# Altium schematic symbol library IR2184.SCHLIB: 34 symbols
Pins are listed as number, name and electrical type; pins without a type are passive.

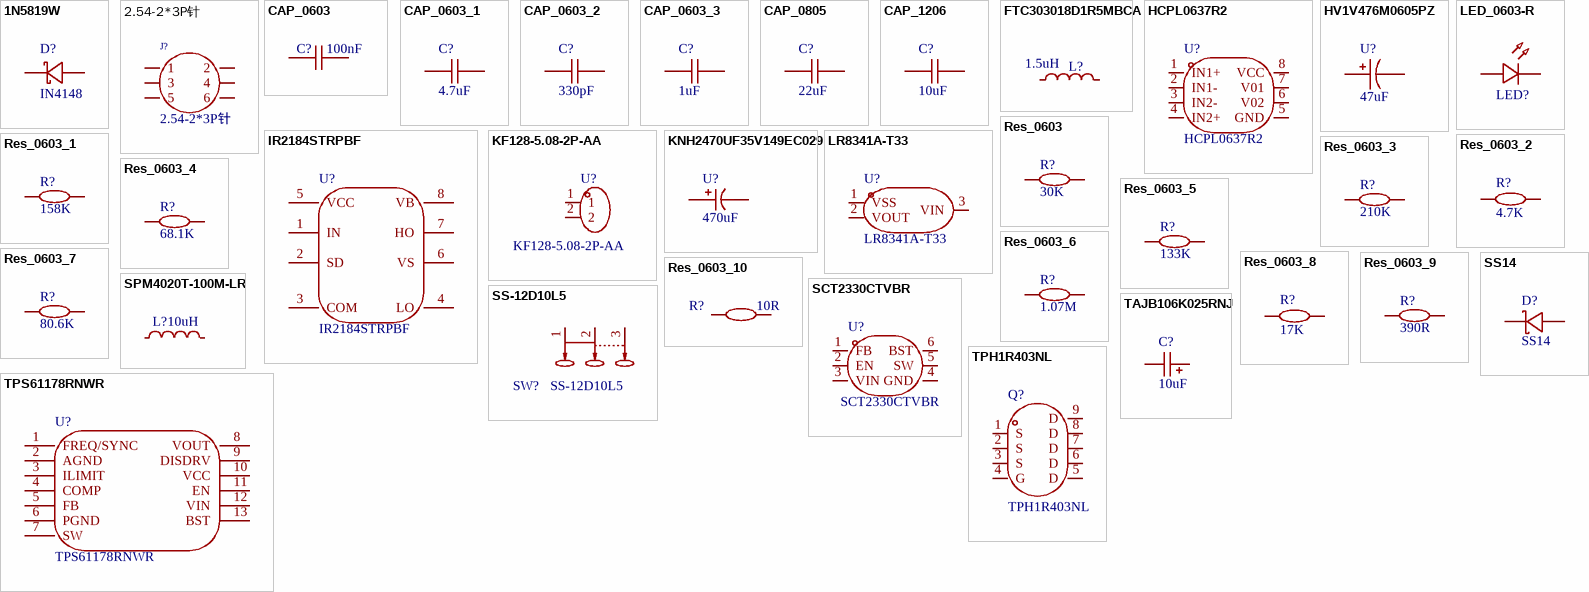
[diagram p0: symbols 1N5819W to TPS61178RNWR]

## 1N5819W
designator D?, comment IN4148
Manufacturer: TECH PUBLIC(台舟); Symbol: 1N5819W_C2905650; Device: 1N5819W; Add into BOM: yes; Forward Voltage (Vf@If): 900mV@3A; Reverse Voltage (Vr): 40V; Average Rectified Current (Io): 1A; Reverse Leakage Current (Ir): 1mA@40V; LCSC Part Name: 电压:40V 电流:1A; Supplier Part: C2905650; Manufacturer Part: 1N5819W; Supplier Footprint: SOD-123; JLCPCB Part Class: 扩展库; Datasheet: https://atta.szlcsc.com/upload/public/pdf/source/20211020/7FEA34DA99E5285CBA3CC87767B82BE7.pdf; Supplier: LCSC; Convert to PCB: yes; Diode Configuration: -
footprint SOD-123
3D model SOD-123_L2.7-W1.6-LS3.7-RD-1
pins: 1 K, 2 A

## 2.54-2*3P针
designator J?
Manufacturer: BOOMELE(博穆精密); Symbol: Header-Male-2.54_2x3; Add into BOM: yes; Pitch: 2.54mm; Device: 2.54-2*3P针; Supplier: LCSC; Manufacturer Part: 2.54-2*3P针; Supplier Part: C65114; LCSC Part Name: 间距:2.54mm 直插; Supplier Footprint: 插件,P=2.54mm; Convert to PCB: yes; Pin Structure: -; Row Spacing: -; Circluar Pins/Square Pins: -; Mounting Type: 直插; Number of Rows: 双排; Number of Pins: 6P; Current Rating (Max): -; Voltage Rating (Max): -; Length of Mating Pin: -; Insulation Height: -; Contact Material: -; Contact Plating: -; Color: 黑色
footprint HDR-TH_6P-P2.54-V-M-R2-C3-S2.54-1
3D model HDR2.54-M-LI-2x3P
pins: 1, 2, 3, 4, 5, 6

## CAP_0603
designator C?, comment 100nF
Symbol: CapAcitance; Device: CAP_0603; Convert to PCB: yes; Add into BOM: yes; Supplier Footprint: 0603; Value: 100nF
footprint C0603
3D model C0603_L1.6-W0.8-H0.8
pins: 1, 2

## CAP_0603_1
designator C?, comment 4.7uF
Symbol: CapAcitance; Device: CAP_0603; Convert to PCB: yes; Add into BOM: yes; Supplier Footprint: 0603; Value: 4.7uF
footprint C0603
3D model C0603_L1.6-W0.8-H0.8
pins: 1, 2

## CAP_0603_2
designator C?, comment 330pF
Symbol: CapAcitance; Device: CAP_0603; Convert to PCB: yes; Add into BOM: yes; Supplier Footprint: 0603; Value: 330pF
footprint C0603
3D model C0603_L1.6-W0.8-H0.8
pins: 1, 2

## CAP_0603_3
designator C?, comment 1uF
Symbol: CapAcitance; Device: CAP_0603; Convert to PCB: yes; Add into BOM: yes; Supplier Footprint: 0603; Value: 1uF
footprint C0603
3D model C0603_L1.6-W0.8-H0.8
pins: 1, 2

## CAP_0805
designator C?, comment 22uF
Symbol: CapAcitance; Device: CAP_0805; Convert to PCB: yes; Add into BOM: yes; Supplier Footprint: 0805; Value: 22uF
footprint C0805
3D model C0805_L2.0-W1.3-H1.3
pins: 1, 2

## CAP_1206
designator C?, comment 10uF
Symbol: CapAcitance; Device: CAP_1206; Convert to PCB: yes; Add into BOM: yes; Supplier Footprint: 1206; Value: 10uF
footprint C1206
3D model C1206_L3.2-W1.6-H1.3
pins: 1, 2

## FTC303018D1R5MBCA
designator L?, comment 1.5uH
Manufacturer: cjiang(长江微电); Symbol: FTC303018D1R5MBCA; Add into BOM: yes; Tolerance: ±20%; Rated Current: 6.8A; Saturation Current (Isat): 8A; DC Resistance (DCR): 26mΩ; Type: 一体成型电感; Device: FTC303018D1R5MBCA; LCSC Part Name: 1.5uH ±20% 8A; Supplier Part: C18724425; Manufacturer Part: FTC303018D1R5MBCA; Supplier Footprint: SMD,3x3mm; JLCPCB Part Class: 扩展库; Datasheet: https://atta.szlcsc.com/upload/public/pdf/source/20231019/B5E0F432965A5C2228E278E158E2A8B1.pdf; Supplier: LCSC; Convert to PCB: yes; Value: 1.5uH
footprint IND-SMD_L3.0-W3.0
3D model IND-SMD_L3.0-W3.0-H1.5
pins: 1, 2

## HCPL0637R2
designator U?
Manufacturer: onsemi(安森美); Add into BOM: yes; Input Type: DC; Supply Voltage: 4.5V~5.5V; Isolation Voltage(rms): 3.75kV; Common Mode Transient Immunity (CMTI): 5kV/us; Data Rate: 10Mbit/s; Propagation Delay tpLH/tpHL: 75ns；75ns; Number of Channels: 2; Symbol: HCPL0637R2; Device: HCPL0637R2; Supplier: LCSC; Supplier Part: C903763; Manufacturer Part: HCPL0637R2; JLCPCB Part Class: 扩展库; LCSC Part Name: DC输入 2通道 隔离电压(rms):3750V; Supplier Footprint: SOIC-8; Datasheet: https://atta.szlcsc.com/upload/public/pdf/source/20210715/C903763_7EAE85807EAC1A9EEA8059367D2C86FD.pdf; Convert to PCB: yes; Operating Temperature: -40℃~+85℃
footprint HCPL-0630
3D model SMD-8_L4.9-W3.9-P1.27-LS6.0-BL
pins: 1 IN1+, 2 IN1-, 3 IN2-, 4 IN2+, 5 GND, 6 V02, 7 V01, 8 VCC

## HV1V476M0605PZ
designator U?, comment 47uF
Manufacturer: HONOR(荣誉); Symbol: HV1V476M0605PZ; Add into BOM: yes; Tolerance: ±20%; Rated Voltage: 35V; φD: 6.3mm; L: 5mm; Device: HV1V476M0605PZ; Supplier: LCSC; Supplier Part: C5246552; Manufacturer Part: HV1V476M0605PZ; Value: 47uF; LCSC Part Name: 47uF ±20% 35V; Supplier Footprint: SMD,D6.3xL5.8mm; Datasheet: https://atta.szlcsc.com/upload/public/pdf/source/20221103/F889AFCC379E96C645A0A58E4BAC43B0.pdf; Convert to PCB: yes; Operating Temperature: -55℃~+105℃
footprint CAP-SMD-L6.6-W6.6
3D model CAP-SMD_BD6.3-L6.6-W6.6-LS7.2-FD
pins: 1, 2

## IR2184STRPBF
designator U?
Manufacturer: Infineon(英飞凌); Add into BOM: yes; Driven Configuration: 半桥; Load Type: MOSFET；IGBT; Number of Drivers: 2; Peak Output Current(sink): 2.3A; Peak Output Current(source): 1.9A; Supply Voltage: 10V~20V; Rise Time: 40ns; Fall Time: 20ns; Symbol: IR2184STRPBF; Device: IR2184STRPBF; Supplier: LCSC; Manufacturer Part: IR2184STRPBF; Supplier Part: C2995; JLCPCB Part Class: 扩展库; LCSC Part Name: IR2184STRPBF; Supplier Footprint: SOIC-8; Datasheet: https://atta.szlcsc.com/upload/public/pdf/source/20180428/C212202_166266BE420162375EE24979A7C0A97C.pdf; Convert to PCB: yes; Operating Temperature: -40℃~+150℃@(Tj)
footprint SOIC-8
3D model SOIC-8_L4.9-W3.9-H1.7-LS6.0-P1.27
pins: 1 IN, 2 SD, 3 COM, 4 LO, 5 VCC, 6 VS, 7 HO, 8 VB

## KF128-5.08-2P-AA
designator U?
Manufacturer: KEFA(科发); Add into BOM: yes; Structure: 1x2P; Pitch: 5.08mm; Current Rating (Max): 24A; Voltage Rating (Max): 250V; Wire Gauge - AWG: 12~22; Wire Gauge - mm2: 2.5; Number of PINs Per Row: 2; Symbol: KF128-5.08-2P; Device: KF128-5.08-2P-AA; Supplier: LCSC; Supplier Part: C474952; Manufacturer Part: KF128-5.08-2P-AA; LCSC Part Name: 5.08mm 1x2P 排数:1 每排P数:2 直插; Supplier Footprint: 插件,P=5.08mm; Datasheet: https://atta.szlcsc.com/upload/public/pdf/source/20230317/DADFED05827EAD48C1D5B8C3D4CF88F4.pdf; Convert to PCB: yes; Color: 绿色; Mounting Style: 直插; Number of Pins: 2P; Number of Rows: 1; Operating Temperature Range: -40℃~+105℃
footprint CONN-TH_P5.08_KF128-5.08-2P
3D model CONN-TH_P5.08_KF128-5.08-2P
pins: 1, 2

## KNH2470UF35V149EC029
designator U?, comment 470uF
Manufacturer: KNSCHA(科尼盛); Symbol: KNH2470UF35V149EC029; Add into BOM: yes; Rated Voltage: 35V; Device: KNH2470UF35V149EC029; LCSC Part Name: 470uF 35V; Supplier Part: C5155349; Manufacturer Part: KNH2470UF35V149EC029; Supplier Footprint: 插件,D8xL14mm; Datasheet: https://atta.szlcsc.com/upload/public/pdf/source/20220901/A0D6BA87A5215908601C61D24FEF08D2.pdf; Supplier: LCSC; Convert to PCB: yes; Value: 470uF
footprint CAP-TH_BD8.0-P3.50-D0.6-FD
3D model CAP-TH_D8.0-H8.0-P3.50
footprint CAP-SMD-L10-W10 (直径10mm，高13mm                 联系卖家 免费查找封装)
pins: 1, 2

## LED_0603-R
designator LED?
Symbol: LED_R; Device: LED_0603-R; Convert to PCB: yes; Add into BOM: yes; Supplier Footprint: 0603
footprint LED_0603
3D model LED-0603_R
pins: 1 C, 2 A

## LR8341A-T33
designator U?
Manufacturer: LR(朗瑞); Add into BOM: yes; Output Type: 固定; Maximum Input Voltage: 40V; Output Voltage: 3.3V; MAX Output Current: 100mA; Power Supply Rejection Ratio (PSRR): 55dB@(1kHz); standby current: 2uA; Output Polarity: 正极; Number of Outputs: 1; Symbol: LR8341A-T33; Device: LR8341A-T33; LCSC Part Name: 输入40V 输出3.3V 100mA; Supplier Part: C2829465; Manufacturer Part: LR8341A-T33; Supplier Footprint: SOT-23-3L; Datasheet: https://atta.szlcsc.com/upload/public/pdf/source/20210426/C2829465_61F15D7ACE9671B48D4F69A8092B0D8F.pdf; Supplier: LCSC; Convert to PCB: yes; Dropout Voltage: -; Noise: -; Feature: -; Operating Temperature: -40℃~+85℃
footprint SOT-23-3
3D model SOT-23-3L_L2.9-W1.6-P1.90-LS2.8-BL
pins: 1 VSS, 2 VOUT, 3 VIN

## Res_0603
designator R?, comment 30K
Symbol: 电阻; Device: Res_0603; Convert to PCB: yes; Add into BOM: yes; Supplier Footprint: 0603; Value: 30K
footprint R0603
3D model R0603
pins: 1, 2

## Res_0603_1
designator R?, comment 158K
Symbol: 电阻; Device: Res_0603; Convert to PCB: yes; Add into BOM: yes; Supplier Footprint: 0603; Value: 158K
footprint R0603
3D model R0603
pins: 1, 2

## Res_0603_2
designator R?, comment 4.7K
Symbol: 电阻; Device: Res_0603; Convert to PCB: yes; Add into BOM: yes; Supplier Footprint: 0603; Value: 4.7K
footprint R0603
3D model R0603
pins: 1, 2

## Res_0603_3
designator R?, comment 210K
Symbol: 电阻; Device: Res_0603; Convert to PCB: yes; Add into BOM: yes; Supplier Footprint: 0603; Value: 210K
footprint R0603
3D model R0603
pins: 1, 2

## Res_0603_4
designator R?, comment 68.1K
Symbol: 电阻; Device: Res_0603; Convert to PCB: yes; Add into BOM: yes; Supplier Footprint: 0603; Value: 68.1K
footprint R0603
3D model R0603
pins: 1, 2

## Res_0603_5
designator R?, comment 133K
Symbol: 电阻; Device: Res_0603; Convert to PCB: yes; Add into BOM: yes; Supplier Footprint: 0603; Value: 133K
footprint R0603
3D model R0603
pins: 1, 2

## Res_0603_6
designator R?, comment 1.07M
Symbol: 电阻; Device: Res_0603; Convert to PCB: yes; Add into BOM: yes; Supplier Footprint: 0603; Value: 1.07M
footprint R0603
3D model R0603
pins: 1, 2

## Res_0603_7
designator R?, comment 80.6K
Symbol: 电阻; Device: Res_0603; Convert to PCB: yes; Add into BOM: yes; Supplier Footprint: 0603; Value: 80.6K
footprint R0603
3D model R0603
pins: 1, 2

## Res_0603_8
designator R?, comment 17K
Symbol: 电阻; Device: Res_0603; Convert to PCB: yes; Add into BOM: yes; Supplier Footprint: 0603; Value: 17K
footprint R0603
3D model R0603
pins: 1, 2

## Res_0603_9
designator R?, comment 390R
Symbol: 电阻; Device: Res_0603; Convert to PCB: yes; Add into BOM: yes; Supplier Footprint: 0603; Value: 390R
footprint R0603
3D model R0603
pins: 1, 2

## Res_0603_10
designator R?, comment 10R
Symbol: 电阻; Device: Res_0603; Convert to PCB: yes; Add into BOM: yes; Supplier Footprint: 0603; Value: 10R
footprint R0603
3D model R0603
pins: 1, 2

## SCT2330CTVBR
designator U?
Manufacturer: SCT(芯洲科技); Add into BOM: yes; Function: 降压型; Input Voltage: 3.8V~32V; Output Current: 3A; Switching Frequency: 400kHz; Synchronous Rectification: 是; Number of Outputs: 1; Switch tube (built-in/external): 内置; Symbol: SCT2330CTVBR; Device: SCT2330CTVBR; LCSC Part Name: DCDC降压转换器; Supplier Part: C5118053; Manufacturer Part: SCT2330CTVBR; Supplier Footprint: TSOT-23-6L; Datasheet: https://atta.szlcsc.com/upload/public/pdf/source/20220816/CF6DB293C381FFF8C1782EC4E015274C.pdf; Supplier: LCSC; Convert to PCB: yes; Operating Temperature: -40℃~+125℃@(TJ)
footprint SOT-23-6
3D model TSOT-23-6_L2.9-W1.6-H1.1-LS2.8-P0.95
pins: 1 FB, 2 EN, 3 VIN, 4 GND, 5 SW, 6 BST

## SPM4020T-100M-LR
designator L?, comment 10uH
Manufacturer: TDK; Symbol: SPM4020T-100M-LR; Add into BOM: yes; Tolerance: ±20%; Rated Current: 1.8A; Saturation Current (Isat): 2.3A; DC Resistance (DCR): 247mΩ; Device: SPM4020T-100M-LR; LCSC Part Name: 10uH ±20% 2.3A; Supplier Part: C307805; Manufacturer Part: SPM4020T-100M-LR; Supplier Footprint: SMD,4.1x4.4mm; Datasheet: https://atta.szlcsc.com/upload/public/pdf/source/20181022/C307805_DB627D658BCFF57BF43649E7DE6C517B.pdf; Supplier: LCSC; Convert to PCB: yes; Value: 10uH; Type: -; Ratings: -
footprint IND-SMD_L4.4-W4.1
3D model IND-SMD_L4.4-W4.1-H1.2
pins: 1, 2

## SS14
designator D?
Manufacturer: onsemi(安森美); Symbol: SS14_C83852; Add into BOM: yes; Forward Voltage (Vf@If): 500mV@1A; Reverse Voltage (Vr): 40V; Average Rectified Current (Io): 1A; Reverse Leakage Current (Ir): 200uA@40V; Device: SS14_C83852; Supplier: LCSC; Supplier Part: C83852; Manufacturer Part: SS14; JLCPCB Part Class: 扩展库; LCSC Part Name: 电压:40V 电流:1A; Supplier Footprint: SMA(DO-214AC); Datasheet: https://atta.szlcsc.com/upload/public/pdf/source/20181222/C83852_041FE29A925F1DAA7D9CB1F1C69076C2.pdf; Convert to PCB: yes
footprint SMA
3D model SMA_L4.3-W2.6-LS5.2-RD
pins: 1 K, 2 A

## SS-12D10L5
designator SW?
Manufacturer: XKB Connectivity(中国星坤); Add into BOM: yes; Circuit: 单刀双掷; Actuator Style: 矩形柱状; Pin Style: PC引脚; Switch Length: 13mm; Switch Width: 6.8mm; Switch Height: 6.4mm; Actuator Color: 黑色; Current Rating (DC): 3A; Voltage Rating (DC): 125V; Mechanical Life: 1万次; Symbol: SS-12D10L5; Device: SS-12D10L5; LCSC Part Name: 柄长5mm 直插双档 滑动开关; Supplier Part: C319012; Manufacturer Part: SS-12D10L5; Supplier Footprint: 插件; Datasheet: https://atta.szlcsc.com/upload/public/pdf/source/20211009/D6412F37AABE6F9459A6EE7FA4DAEADB.pdf; Supplier: LCSC; Convert to PCB: yes; Mounting Style: 直插; Current Rating (AC): 3A; Voltage Rating (AC): 125V; Operating Temperature: -40℃~+85℃
footprint SW-TH_SS-12D10L5
3D model SW-TH_L13.0-W6.8-H6.4-P4.7
pins: 1, 2, 3

## TAJB106K025RNJ
designator C?, comment 10uF
Manufacturer: Kyocera AVX; Symbol: TAJB106K025RNJ; Add into BOM: yes; Tolerance: ±10%; Rated Voltage: 25V; Equivalent Series Resistance(ESR): 2.5Ω@100kHz; Device: TAJB106K025RNJ; LCSC Part Name: 10uF ±10% 25V; Supplier Part: C7194; Manufacturer Part: TAJB106K025RNJ; Supplier Footprint: CASE-B-3528; Datasheet: https://atta.szlcsc.com/upload/public/pdf/source/20160107/1457707750344.pdf; Supplier: LCSC; Convert to PCB: yes; Value: 10uF; Operating Temperature: -55℃~+125℃
footprint CASE-B-3258
3D model CASE-B_L3.5-W2.8-H1.9
pins: 1, 2

## TPH1R403NL
designator Q?
Manufacturer: TOSHIBA(东芝); Device: TPH1R403NL_C83440; Add into BOM: yes; Type: N沟道; Drain Source Voltage (Vdss): 30V; Continuous Drain Current (Id): 150A; Power Dissipation (Pd): 64W; Drain Source On Resistance (RDS(on)@Vgs,Id): 1.4mΩ@10V,30A; Gate Threshold Voltage (Vgs(th)@Id): 2.3V@500uA; Symbol: TPH1R403NL; LCSC Part Name: N沟道 耐压:30V 电流:150A; Supplier Part: C83440; Manufacturer Part: TPH1R403NL; Supplier Footprint: DFN-8(5x6); Datasheet: https://atta.szlcsc.com/upload/public/pdf/source/20170908/C83440_1504870121708958077.pdf; Supplier: LCSC; Convert to PCB: yes
footprint DSOP-8
3D model DSOP-8_L5.0-W5.0-H0.7-LS6.0-P1.27
pins: 1 S, 2 S, 3 S, 4 G, 5 D, 6 D, 7 D, 8 D, 9 D

## TPS61178RNWR
designator U?
Manufacturer_Name: Texas Instruments; Add into BOM: yes; Symbol: TPS61178RNWR; Device: TPS61178RNWR; Datasheet Link: http://www.ti.com/lit/gpn/tps61178; Manufacturer_Part_Number: TPS61178RNWR; Mouser Part Number: 595-TPS61178RNWR; Mouser Price/Stock: https://www.mouser.co.uk/ProductDetail/Texas-Instruments/TPS61178RNWR?qs=Mv7BduZupUhbl3uVZwuyJQ%3D%3D; Arrow Part Number: TPS61178RNWR; Arrow Price/Stock: https://www.arrow.com/en/products/tps61178rnwr/texas-instruments?region=nac; Convert to PCB: yes
footprint RNW0013A
pins: 1 FREQ/SYNC, 2 AGND, 3 ILIMIT, 4 COMP, 5 FB, 6 PGND, 7 SW, 8 VOUT, 9 DISDRV, 10 VCC, 11 EN, 12 VIN, 13 BST